# EAGLE library part TPS63001DRCR (library TPS63001DRCR)
Switching Voltage Regulators 96% Buck-Boost Conv Source: Datasheet <https://www.ti.com/lit/ds/symlink/tps63001.pdf?ts=1616520267195&ref_url=https%3A%2F%2Fwww.ti.com%2Fstore%2Fti%2Fen%2Fp%2Fproduct%2F%3Fp%3DTPS63001DRCT>
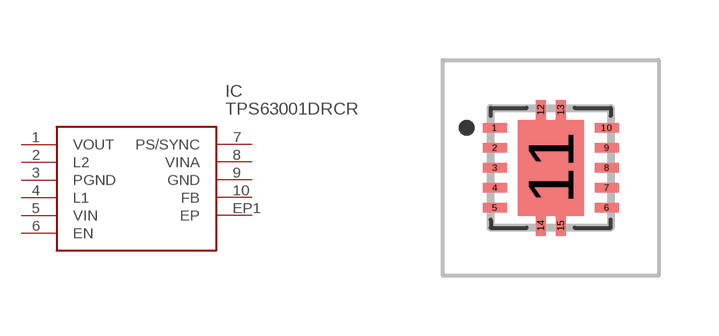
[diagram p0: symbol with the pads of TPS74901DRCR; footprint TPS74901DRCR]

Designator prefix IC

## TPS63001DRCR (Arrow_Part_Number: TPS63001DRCR; Arrow_Price-Stock: https://www.arrow.com/en/products/tps63001drcr/texas-instruments?utm_currency=USD&region=nac; Description: Switching Voltage Regulators 96% Buck-Boost Conv; Height: mm; Manufacturer_Name: Texas Instruments; Manufacturer_Part_Number: TPS63001DRCR; Mouser_Part_Number: 595-TPS63001DRCR; Mouser_Price-Stock: https://www.mouser.co.uk/ProductDetail/Texas-Instruments/TPS63001DRCR?qs=QZuYiDxzHagn01UZf%2F%252B1Bw%3D%3D)  [TPS74901DRCR]
1  VOUT
2  L2
3  PGND
4  L1
5  VIN
6  EN
7  PS/SYNC
8  VINA
9  GND
10  FB
EP1  EP

## Footprint TPS74901DRCR (pad centres in mm)
DRC0010J
smd 0.6 x 0.24: 1 -1.4,1; 2 -1.4,0.5; 3 -1.4,0; 4 -1.4,-0.5; 5 -1.4,-1; 6 1.4,-1; 7 1.4,-0.5; 8 1.4,0; 9 1.4,0.5; 10 1.4,1
smd 1.65 x 2.4: 11 0,0
smd 0.25 x 0.5: 12 -0.25,1.45; 13 0.25,1.45; 14 -0.25,-1.45; 15 0.25,-1.45